# Altium schematic symbol library GS10B60KD.Schlib: 1 symbol
Pins are listed as number, name and electrical type; pins without a type are passive.

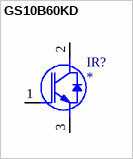
[diagram p0: symbol GS10B60KD]

## GS10B60KD
designator IR?
pins: 1 G, 2 C (oc), 3 E (oe)